# EAGLE library part FXMA108 (library Parts)
２電源双方向レベル変換IC 電源電圧:1.65V~5.5V (絶対最大定格:7.0V)
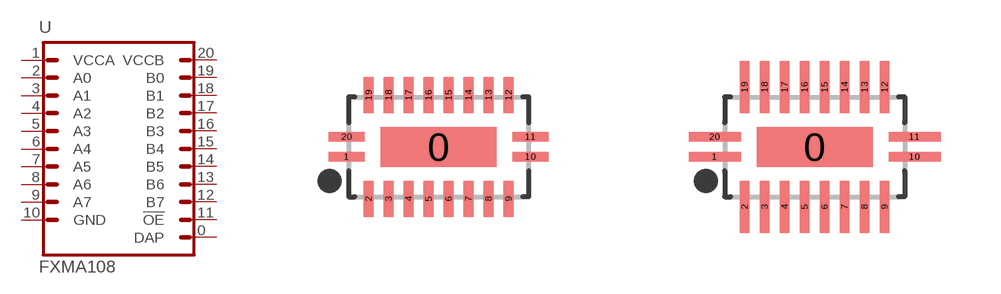
[diagram p20: symbol with the pads of DQFN20; footprints DQFN20, DQFN20_DEV]

Designator prefix U

## FXMA108  [DQFN20]
0  DAP  nc
1  VCCA  pas
2  A0
3  A1
4  A2
5  A3
6  A4
7  A5
8  A6
9  A7
10  GND  pas
11  !OE!  pas
12  B7
13  B6
14  B5
15  B4
16  B3
17  B2
18  B1
19  B0
20  VCCB  pas

## FXMA108_  [DQFN20_DEV]
Pads as for DQFN20

## Footprint DQFN20 (pad centres in mm)
20-Lead, DQFN 2.5x4.5 mm package
smd 2.9 x 1: 0 0,0
smd 0.9 x 0.24: 1 -2.3,-0.25; 10 2.3,-0.25; 11 2.3,0.25; 20 -2.3,0.25
smd 0.24 x 0.9: 2 -1.75,-1.3; 3 -1.25,-1.3; 4 -0.75,-1.3; 5 -0.25,-1.3; 6 0.25,-1.3; 7 0.75,-1.3; 8 1.25,-1.3; 9 1.75,-1.3; 12 1.75,1.3; 13 1.25,1.3; 14 0.75,1.3; 15 0.25,1.3; 16 -0.25,1.3; 17 -0.75,1.3; 18 -1.25,1.3; 19 -1.75,1.3

## Footprint DQFN20_DEV (pad centres in mm)
20-Lead, DQFN 2.5x4.5 mm package
smd 2.9 x 1: 0 0,0
smd 1.3 x 0.24: 1 -2.5,-0.25; 10 2.5,-0.25; 11 2.5,0.25; 20 -2.5,0.25
smd 0.24 x 1.3: 2 -1.75,-1.5; 3 -1.25,-1.5; 4 -0.75,-1.5; 5 -0.25,-1.5; 6 0.25,-1.5; 7 0.75,-1.5; 8 1.25,-1.5; 9 1.75,-1.5; 12 1.75,1.5; 13 1.25,1.5; 14 0.75,1.5; 15 0.25,1.5; 16 -0.25,1.5; 17 -0.75,1.5; 18 -1.25,1.5; 19 -1.75,1.5